# Altium footprint library STM32F103.PcbLib: 1 footprints
Each footprint in its own frame and in the unit in brackets; x right, y up, seen from the top. Pads: shape width x height; smd on the part's side, far side on the other; paste and mask are expansions set on the pad; w line width, h text height; cw(c..) or ccw(c..) is an arc to the next point about the centre after c.
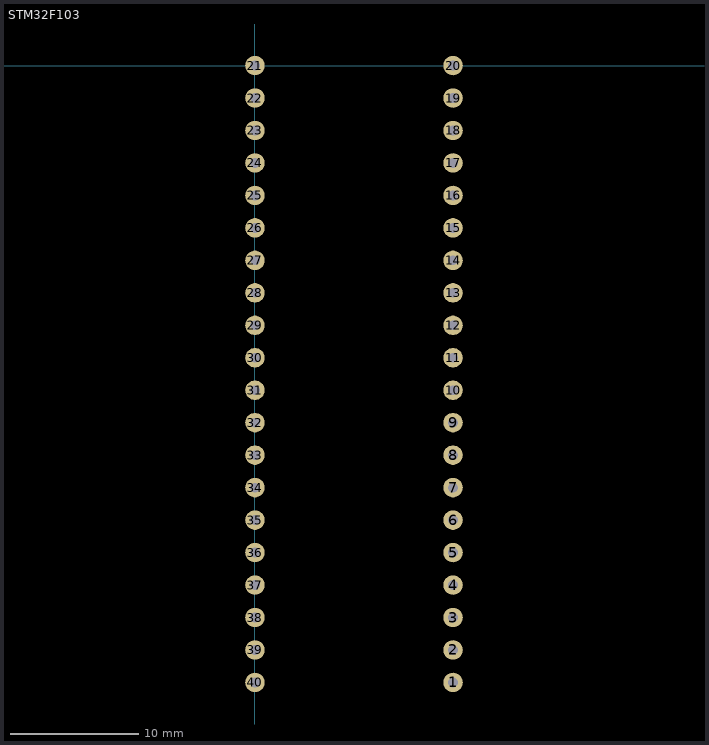
[diagram p0: the footprint, top view; thin cyan lines are the x and y axes]

## STM32F103 [mil]
pads (40):
  round 60 hole 30: 1(610,-1900) 2(610,-1800) 3(610,-1700) 4(610,-1600) 5(610,-1500) 6(610,-1400) 7(610,-1300) 8(610,-1200) 9(610,-1100) 10(610,-1000) 11(610,-900) 12(610,-800) 13(610,-700) 14(610,-600) 15(610,-500) 16(610,-400) 17(610,-300) 18(610,-200) 19(610,-100) 20(610,0) 21(0,0) 22(0,-100) 23(0,-200) 24(0,-300) 25(0,-400) 26(0,-500) 27(0,-600) 28(0,-700) 29(0,-800) 30(0,-900) 31(0,-1000) 32(0,-1100) 33(0,-1200) 34(0,-1300) 35(0,-1400) 36(0,-1500) 37(0,-1600) 38(0,-1700) 39(0,-1800) 40(0,-1900)
3D body "stm32f103c8t6-board.SLDPRT": height 358.27, standoff -311.02, extent -147.01,-2010.38 758.51,265.21